# Altium schematic symbol library DIODE_TRANS_UNI_3A_2K_3K.Schlib: 1 symbol
Pins are listed as number, name and electrical type; pins without a type are passive.

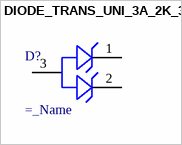
[diagram p0: symbol DIODE_TRANS_UNI_3A_2K_3K]

## DIODE_TRANS_UNI_3A_2K_3K
designator D?  (value not drawn)
=description; Value: =_Name
pins: 1 K1, 2 K2, 3 A